# Altium schematic symbol library CH340G.SchLib: 1 symbol
Pins are listed as number, name and electrical type; pins without a type are passive.

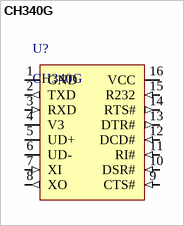
[diagram p0: symbol CH340G]

## CH340G
designator U?
USB to Serial UART Interface Controller IC, SOP-16, 5V/3.3V, 12MHz External Crystal Required
footprint SOP127P780X200-16N
footprint SOP127P780X200-16N
pins: 1 GND (power), 2 TXD (out), 3 RXD (in), 4 V3 (power), 5 UD+ (io), 6 UD- (io), 7 XI (in), 8 XO (out), 9 CTS# (in), 10 DSR# (in), 11 RI# (in), 12 DCD# (in), 13 DTR# (out), 14 RTS# (out), 15 R232 (in), 16 VCC (power)